# Altium schematic symbol library MegaProject_Lib.SchLib: 21 symbols
Pins are listed as number, name and electrical type; pins without a type are passive.

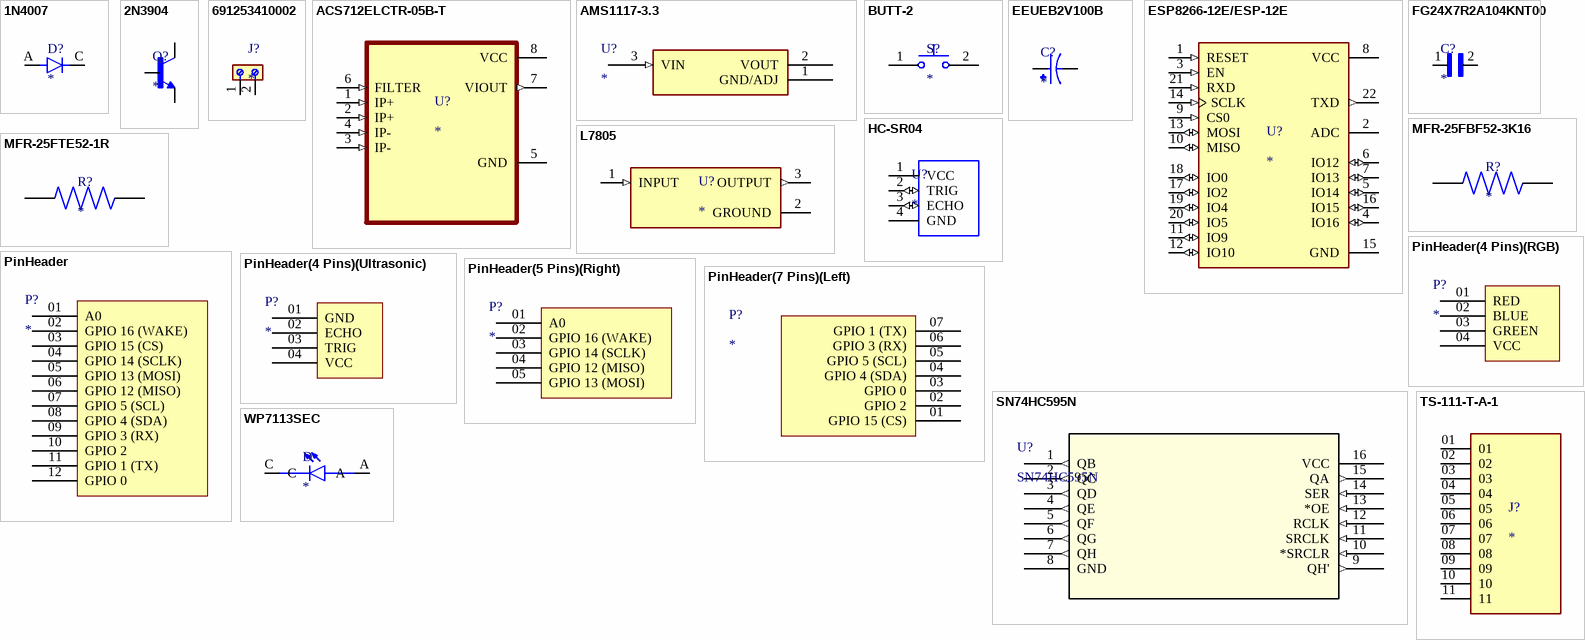
[diagram p0: symbols 1N4007 to WP7113SEC]

## 1N4007
designator D?
Diode Standard 1000 V 1A Through Hole DO-41; MF: NTE Electronics, Inc.; MP: 1N4007; Package: DO-41 NTE Electronics; Check_prices: https://www.snapeda.com/parts/1N4007/NTE+Electronics/view-part/?ref=eda; Value: *; Purchase-URL: https://pricing.snapeda.com/search/part/1N4007/?ref=eda; Availability: In Stock; SnapEDA_Link: https://www.snapeda.com/parts/1N4007/NTE+Electronics/view-part/?ref=snap; Price: None
footprint DIOAD1060W80L520D270
pins: A, C

## 2N3904
designator Q?
TRANS NPN 40V 200MA TO92-3; MP: 2N3904; MF: Rectron; SnapEDA_Link: https://www.snapeda.com/parts/2N3904/Rectron/view-part/?ref=snap; Package: TO-226-3 Rectron; Check_prices: https://www.snapeda.com/parts/2N3904/Rectron/view-part/?ref=eda; Purchase-URL: https://pricing.snapeda.com/search/part/2N3904/?ref=eda; Price: None; Value: *; Availability: In Stock
footprint TO92127P495H495-3
pins: 1 E, 2 B, 3 C

## 691253410002
designator J?
7.62 MM TERMINAL BLOCK, HORIZONT; MF: WÃ¼rth Elektronik; MP: 691253410002; Package: None; Price: None; Check_prices: https://www.snapeda.com/parts/691253410002/Wurth+Electronics+Inc./view-part/?ref=eda; Value: *; SnapEDA_Link: https://www.snapeda.com/parts/691253410002/Wurth+Electronics+Inc./view-part/?ref=snap; Availability: In Stock; Purchase-URL: https://pricing.snapeda.com/search?q=691253410002&ref=eda
footprint 691253410002
pins: 1, 2

## ACS712ELCTR-05B-T
designator U?
Current Sensor 5A 1 Channel Hall Effect, Open Loop Bidirectional 8-SOIC (0.154, 3.90mm Width); MP: ACS712ELCTR-05B-T; MF: Allegro MicroSystems LLC; SnapEDA_Link: https://www.snapeda.com/parts/ACS712ELCTR-05B-T/Allegro+MicroSystems+LLC/view-part/?ref=snap; Package: SOIC-8 Allegro MicroSystems LLC; Check_prices: https://www.snapeda.com/parts/ACS712ELCTR-05B-T/Allegro+MicroSystems+LLC/view-part/?ref=eda; Purchase-URL: https://pricing.snapeda.com/search/part/ACS712ELCTR-05B-T/?ref=eda; Price: None; Value: *; Availability: In Stock
footprint SOIC127P600X175-8N - duplicate
pins: 1 IP+ (in), 2 IP+ (in), 3 IP- (in), 4 IP- (in), 5 GND (power), 6 FILTER (in), 7 VIOUT (out), 8 VCC (power)

## AMS1117-3.3
designator U?
Sot223/Pkg 1-Amp 3.3-Volt Low Drop Out Voltage Regulatator; MF: Advanced Monolithic Systems; MP: AMS1117-3.3; Package: SOT-223 Seeed Technology; Value: *; Check_prices: https://www.snapeda.com/parts/AMS1117-3.3/Advanced+Monolithic+Systems/view-part/?ref=eda; Price: None; Availability: Not in stock; SnapEDA_Link: https://www.snapeda.com/parts/AMS1117-3.3/Advanced+Monolithic+Systems/view-part/?ref=snap
footprint SOT229P700X180-4N
pins: 1 GND/ADJ (power), 2 VOUT (power), 3 VIN (in)

## BUTT-2
designator S?
Tactile Switches MINI PUSH BUTTON SWITCH 2-PIN QTY. 4; MF: Gravitech; MP: BUTT-2; Purchase-URL: https://pricing.snapeda.com/search/part/BUTT-2/?ref=eda; Package: None; Value: *; Check_prices: https://www.snapeda.com/parts/BUTT-2/Gravitech/view-part/?ref=eda; SnapEDA_Link: https://www.snapeda.com/parts/BUTT-2/Gravitech/view-part/?ref=snap; Availability: In Stock; Price: None
footprint SW_BUTT-2
pins: 1, 2

## EEUEB2V100B
designator C?
Aluminum Electrolytic Capacitors - Radial Leaded 10uF 350volts AEC-Q200; MF: Panasonic; MP: EEU-EB2V100B; Price: None; Check_prices: https://www.snapeda.com/parts/EEU-EB2V100B/Panasonic/view-part/?ref=eda; SnapEDA_Link: https://www.snapeda.com/parts/EEU-EB2V100B/Panasonic/view-part/?ref=snap; Availability: In Stock; Value: *; Package: RADIAL-2 Panasonic
footprint CAPPRD500W60D1000H2000
pins: N, P

## ESP8266-12E/ESP-12E
designator U?
This WiFi module has a 32-bit MCU micro and clock speeds supporting 80 MHz or 160 MHz. Supports the RTOS and integrated Wi-Fi MAC/BB/RF/PA/LNA, and has an on-board antenna.; MF: AI-Thinker; MP: ESP8266-12E/ESP-12E; Value: *; SnapEDA_Link: https://www.snapeda.com/parts/ESP8266-12E/ESP-12E/AI-Thinker/view-part/?ref=snap; Availability: Not in stock; Price: None; Package: None; Check_prices: https://www.snapeda.com/parts/ESP8266-12E/ESP-12E/AI-Thinker/view-part/?ref=eda
footprint XCVR_ESP8266-12E/ESP-12E
pins: 1 RESET (in), 2 ADC, 3 EN (in), 4 IO16 (io), 5 IO14 (io), 6 IO12 (io), 7 IO13 (io), 8 VCC (power), 9 CS0 (in), 10 MISO (io), 11 IO9 (io), 12 IO10 (io), 13 MOSI (io), 14 SCLK (in), 15 GND (power), 16 IO15 (io), 17 IO2 (io), 18 IO0 (io), 19 IO4 (io), 20 IO5 (io), 21 RXD (in), 22 TXD (out)

## FG24X7R2A104KNT00
designator C?
Cap Ceramic 0.1uF 100V X7R 10% Radial 5mm 125Â°C Bulk; MP: FG24X7R2A104KNT00; MF: TDK; Package: Radial TDK; Purchase-URL: https://pricing.snapeda.com/search/part/FG24X7R2A104KNT00/?ref=eda; Check_prices: https://www.snapeda.com/parts/FG24X7R2A104KNT00/TDK/view-part/?ref=eda; Value: *; Availability: In Stock; Price: None; SnapEDA_Link: https://www.snapeda.com/parts/FG24X7R2A104KNT00/TDK/view-part/?ref=snap
footprint CAPRR508W50L508T318H762
pins: 1, 2

## HC-SR04
designator U?
Ultrasonic Sensor Module; MP: HC-SR04; Availability: Unavailable; Value: *; Price: None; Package: None
footprint XCVR_HC-SR04
pins: 1 VCC (power), 2 TRIG (io), 3 ECHO (io), 4 GND (power)

## L7805
designator U?
Standard Regulator Pos 5V 1.5A 3-Pin(3+Tab) TO-220FP Tube; MP: L7805; MF: STMicroelectronics; Value: *; SnapEDA_Link: https://www.snapeda.com/parts/L7805/STMicroelectronics/view-part/?ref=snap; Price: None; Package: None; Check_prices: https://www.snapeda.com/parts/L7805/STMicroelectronics/view-part/?ref=eda; Availability: Not in stock
footprint TO255P1020X450X2000-3
pins: 1 INPUT (in), 2 GROUND (power), 3 OUTPUT (out)

## MFR-25FBF52-3K16
designator R?
RES 280K OHM 1/4W 1% AXIAL; MP: MFR-25FBF52-3K16; Package: None; Price: None; Value: *; Availability: Unavailable
footprint RESAD1100W55L680D260
pins: 1, 2

## MFR-25FTE52-1R
designator R?
1.02 Ohms Â±1% 0.25W, 1/4W Through Hole Resistor Axial Metal Film; MP: MFR-25FTE52-1R; MF: Yageo; Availability: Warning; Value: *; Check_prices: https://www.snapeda.com/parts/MFR-25FTE52-1R/Yageo/view-part/4629919/?ref=eda; Package: Axial Yageo; Price: None; SnapEDA_Link: https://www.snapeda.com/parts/MFR-25FTE52-1R/Yageo/view-part/4629919/?ref=snap; Purchase-URL: https://pricing.snapeda.com/search/part/MFR-25FTE52-1R/?ref=eda
footprint RESAD1100W55L680D260
pins: 1, 2

## PinHeader
designator P?
footprint 12 pins connector
pins: 01 A0, 02 GPIO 16 (WAKE), 03 GPIO 15 (CS), 04 GPIO 14 (SCLK), 05 GPIO 13 (MOSI), 06 GPIO 12 (MISO), 07 GPIO 5 (SCL), 08 GPIO 4 (SDA), 09 GPIO 3 (RX), 10 GPIO 2, 11 GPIO 1 (TX), 12 GPIO 0

## PinHeader(4 Pins)(RGB)
designator P?
footprint 4 pins connector
pins: 01 RED, 02 BLUE, 03 GREEN, 04 VCC

## PinHeader(4 Pins)(Ultrasonic)
designator P?
footprint 4 pins connector
pins: 01 GND, 02 ECHO, 03 TRIG, 04 VCC

## PinHeader(5 Pins)(Right)
designator P?
footprint 5 pins connector
pins: 01 A0, 02 GPIO 16 (WAKE), 03 GPIO 14 (SCLK), 04 GPIO 12 (MISO), 05 GPIO 13 (MOSI)

## PinHeader(7 Pins)(Left)
designator P?
footprint 7 pins connector
pins: 01 GPIO 15 (CS), 02 GPIO 2, 03 GPIO 0, 04 GPIO 4 (SDA), 05 GPIO 5 (SCL), 06 GPIO 3 (RX), 07 GPIO 1 (TX)

## SN74HC595N
designator U?
No Description Available; Mfr_Name: Texas Instruments; Copyright: Copyright (C) 2023 Ultra Librarian. All rights reserved.; Manufacturer_Part_Number: SN74HC595N; RefDes: RefDes; Type: DEV
footprint N16
pins: 1 QB (out), 2 QC (out), 3 QD (out), 4 QE (out), 5 QF (out), 6 QG (out), 7 QH (out), 8 GND (power), 9 QH' (out), 10 *SRCLR (in), 11 SRCLK (in), 12 RCLK (in), 13 *OE (in), 14 SER (in), 15 QA (out), 16 VCC (power)

## TS-111-T-A-1
designator J?
Connector Header position; MP: TS-111-T-A-1; MF: Samtec; Check_prices: https://www.snapeda.com/parts/TS-111-T-A-1/Samtec/view-part/?ref=eda; Value: *; Availability: In Stock; Price: None; Package: None; SnapEDA_Link: https://www.snapeda.com/parts/TS-111-T-A-1/Samtec/view-part/?ref=snap; Purchase-URL: https://pricing.snapeda.com/search/part/TS-111-T-A-1/?ref=eda
footprint SAMTEC_TS-111-T-A-1
pins: 01, 02, 03, 04, 05, 06, 07, 08, 09, 10, 11

## WP7113SEC
designator D
Red 625nm LED Indication - Discrete 2.2V Radial; MF: Kingbright; MP: WP7113SEC; Arrow_Electronics-Purchase-URL: https://snapeda.com/shop?store=Arrow+Electronics&id=1233302; Value: *; SnapEDA_Link: https://www.snapeda.com/parts/WP7113SEC/Kingbright/view-part/1233302/?ref=snap; DigiKey-Purchase-URL: https://snapeda.com/shop?store=DigiKey&id=1233302; Package: Radial Kingbright; Mouser-Purchase-URL: https://snapeda.com/shop?store=Mouser&id=1233302; Price: None; Availability: Good
footprint LED_WP7113SEC
pins: A, C